# Altium schematic symbol library LEDs-Addressable.SchLib: 1 symbol
Pins are listed as number, name and electrical type; pins without a type are passive.

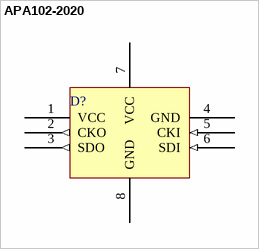
[diagram p0: symbol APA102-2020]

## APA102-2020
designator D?  (value not drawn)
DotStar Micro LEDs (APA102 2020) - Smart SMD RGB LED; Manufacturer: Adafruit Industries; PartNumber: APA102-2020; PackageReference: SMD-6; PackageDescription: SMD-6; Mounting Technology: Surface Mount
footprint APA102-2020
pins: 1 VCC (power), 2 CKO (out), 3 SDO (out), 4 GND (power), 5 CKI (in), 6 SDI (in), 7 VCC (power), 8 GND (power)